# Altium footprint library gravpower.PcbLib: 27 footprints (part 2 of 2)
Each footprint in its own frame and in the unit in brackets; x right, y up, seen from the top. Pads: shape width x height; smd on the part's side, far side on the other; paste and mask are expansions set on the pad; w line width, h text height; cw(c..) or ccw(c..) is an arc to the next point about the centre after c.
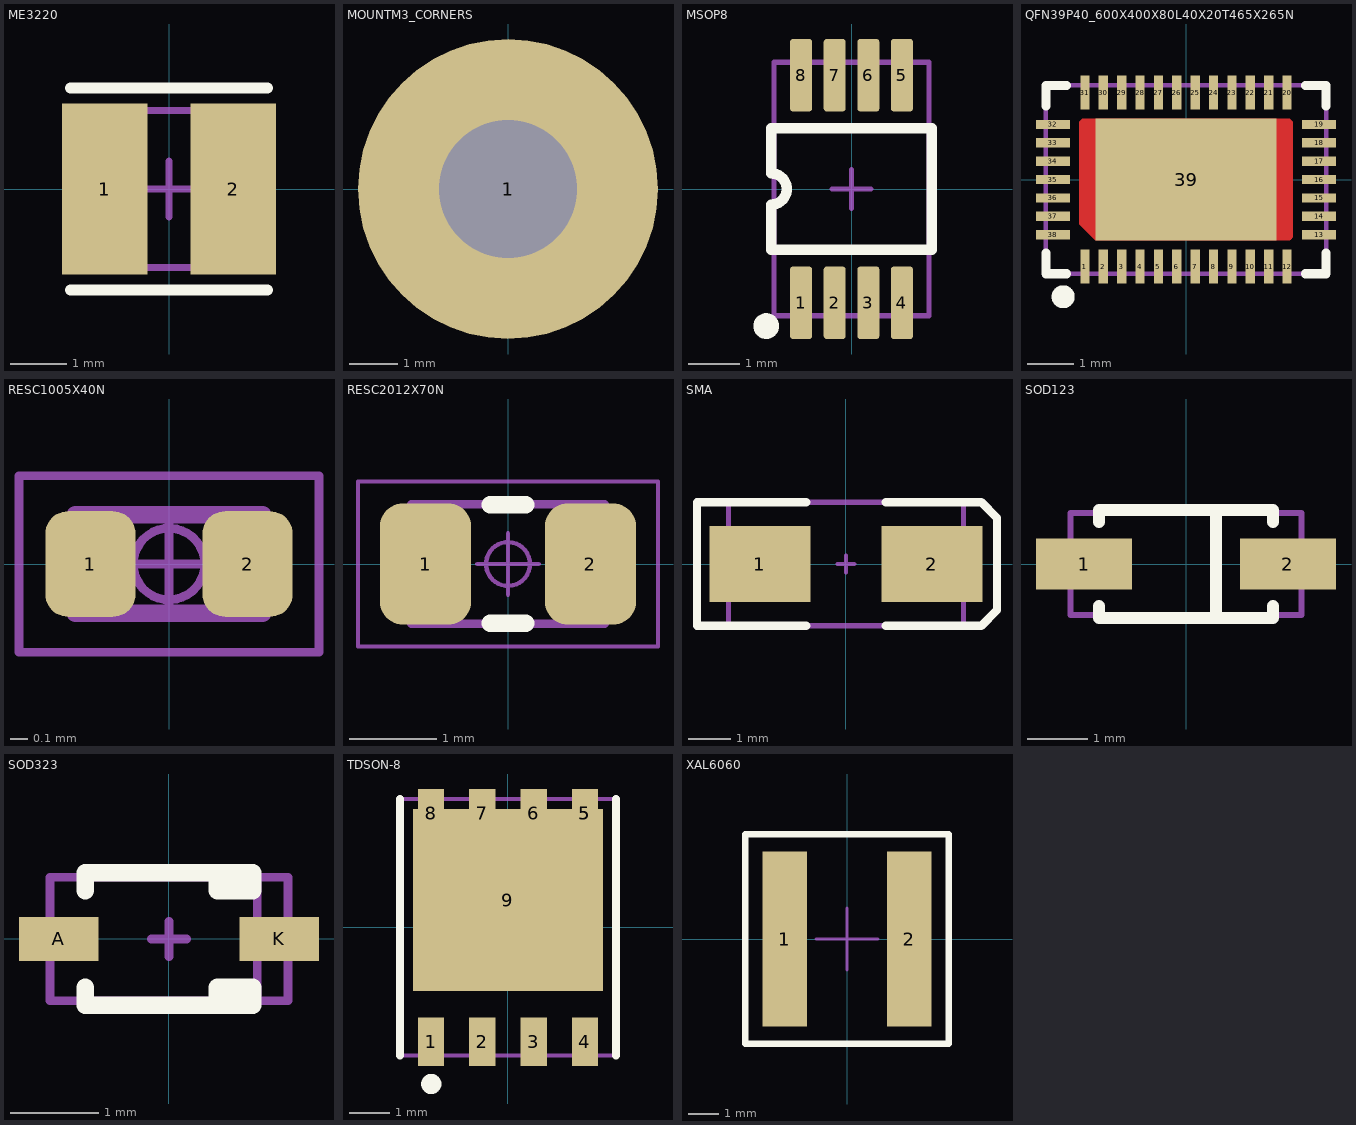
[diagram p1: the footprints below, top view; thin cyan lines are the x and y axes]

## ME3220 [mm] "SMT Power Inductor"
height 2
pads (2):
  rect 1.52x3.05 smd mask+0.05: 1(-1.145,0) 2(1.145,0)
Top Overlay:
  lines w0.2: -1.75,-1.8 1.75,-1.8 ; -1.75,1.8 1.75,1.8
Mechanical 15:
  lines w0.127: -0.5,0 0.5,0 ; 0,-0.5 0,0.5 ; -1.75,-1.4 1.775,-1.4 1.775,1.4 -1.75,1.4 -1.75,-1.4
3D body: height 2.4, standoff 0, extent -1.75,-1.399 1.75,1.399

## MOUNTM3_CORNERS [mm] "M3 Mounting Hole"
pads (1):
  round 6.2 hole 2.845 mask+0.4: 1(0,0)

## MSOP8 [mm] "MSOP8"
height 1.1
pads (8):
  rrect25% 0.425x1.4 smd mask+0.051: 1(-0.975,-2.2) 2(-0.325,-2.2) 3(0.325,-2.2) 4(0.975,-2.2) 5(0.975,2.2) 6(0.325,2.2) 7(-0.325,2.2) 8(-0.975,2.2)
Top Overlay:
  circle w0.25: c-1.65,-2.65 r0.125
  lines w0.2: -1.55,-1.175 -1.55,-0.3 ccw(c-1.55,0) -1.55,0.3 -1.55,1.175 1.55,1.175 1.55,-1.175 -1.55,-1.175
Mechanical 15:
  lines w0.1: -0.375,0 0.375,0 ; 0,-0.375 0,0.375 ; -1.5,-2.45 -1.5,2.45 1.5,2.45 1.5,-2.45 -1.5,-2.45
3D body "msop-8.step": height 1.15, standoff 0, extent -1.5,-2.45 1.5,2.45

## QFN39P40_600X400X80L40X20T465X265N [mm] "Quad Flat No-Lead (QFN with Tab), 0.40 mm pitch; rect., 12 pin X 7 pin, 6.00 mm L X 4.00 mm W X 0.80 mm H body"
height 0.8
pads (39):
  rect 0.2x0.74 smd mask+0.05: 1(-2.2,-1.895) 2(-1.8,-1.895) 3(-1.4,-1.895) 4(-1,-1.895) 5(-0.6,-1.895) 6(-0.2,-1.895) 7(0.2,-1.895) 8(0.6,-1.895) 9(1,-1.895) 10(1.4,-1.895) 11(1.8,-1.895) 12(2.2,-1.895) 20(2.2,1.895) 21(1.8,1.895) 22(1.4,1.895) 23(1,1.895) 24(0.6,1.895) 25(0.2,1.895) 26(-0.2,1.895) 27(-0.6,1.895) 28(-1,1.895) 29(-1.4,1.895) 30(-1.8,1.895) 31(-2.2,1.895)
  rect 0.74x0.2 smd mask+0.05: 13(2.895,-1.2) 14(2.895,-0.8) 15(2.895,-0.4) 16(2.895,0) 17(2.895,0.4) 18(2.895,0.8) 19(2.895,1.2) 32(-2.895,1.2) 33(-2.895,0.8) 34(-2.895,0.4) 35(-2.895,0) 36(-2.895,-0.4) 37(-2.895,-0.8) 38(-2.895,-1.2)
  rect 3.95x2.65 smd paste-3.95 mask+0: 39(0,0)
Top Layer:
  region: 2.325,0 2.325,-1.225 2.324,-1.241 2.32,-1.256 2.314,-1.27 2.306,-1.284 2.296,-1.296 2.284,-1.306 2.27,-1.314 2.256,-1.32 2.241,-1.324 -1.975,-1.325 -2.325,-0.975 -2.325,1.225 -2.324,1.241 -2.32,1.256 -2.314,1.27 -2.306,1.284 -2.296,1.296 -2.284,1.306 -2.27,1.314 -2.256,1.32 -2.241,1.324 2.225,1.325 2.241,1.324 2.256,1.32 2.27,1.314 2.284,1.306 2.296,1.296 2.306,1.284 2.314,1.27 2.32,1.256 2.324,1.241 2.325,1.225
Top Overlay:
  circle w0.25: c-2.675,-2.55 r0.125
  lines w0.2: -3.05,-1.6 -3.05,-2.05 -2.6,-2.05 ; -3.05,1.6 -3.05,2.05 -2.6,2.05 ; 2.6,-2.05 3.05,-2.05 3.05,-1.6 ; 2.6,2.05 3.05,2.05 3.05,1.6
Top Paste:
  region: -0.16,0.16 -2,0.16 -2,1 -0.16,1
  region: -0.16,-1 -2,-1 -2,-0.16 -0.16,-0.16
  region: 2,0.16 0.16,0.16 0.16,1 2,1
  region: 2,-1 0.16,-1 0.16,-0.16 2,-0.16
Top Solder:
  region: 2.325,0 2.325,-1.225 2.324,-1.241 2.32,-1.256 2.314,-1.27 2.306,-1.284 2.296,-1.296 2.284,-1.306 2.27,-1.314 2.256,-1.32 2.241,-1.324 -1.975,-1.325 -2.325,-0.975 -2.325,1.225 -2.324,1.241 -2.32,1.256 -2.314,1.27 -2.306,1.284 -2.296,1.296 -2.284,1.306 -2.27,1.314 -2.256,1.32 -2.241,1.324 2.225,1.325 2.241,1.324 2.256,1.32 2.27,1.314 2.284,1.306 2.296,1.296 2.306,1.284 2.314,1.27 2.32,1.256 2.324,1.241 2.325,1.225
Mechanical 15:
  lines w0.1: -0.35,0 0.35,0 ; 0,-0.35 0,0.35 ; -3.05,-2.05 3.05,-2.05 3.05,2.05 -3.05,2.05 -3.05,-2.05
3D body "QFN39P40_600X400X80L40X20T465X265.STEP": height 0.8, standoff 0, extent -3.05,-2.05 3.05,2.05

## RESC1005X40N [mm] "Resistor, Chip; 1.00 mm L X 0.50 mm W X 0.40 mm H body"
height 0.4
pads (2):
  rrect50% 0.51x0.6 smd: 1(-0.445,0) 2(0.445,0)
Mechanical 11:
  circle w0.05: c0,0 r0.202
  lines w0.05: -0.27,0 0.27,0 ; 0,-0.27 0,0.27 ; -0.85,-0.5 0.85,-0.5 0.85,0.5 -0.85,0.5 -0.85,-0.5
Mechanical 15:
  lines w0.1: -0.53,-0.28 0.53,-0.28 0.53,0.28 -0.53,0.28 -0.53,-0.28
3D body "RESC1005X40.STEP": height 0.4, standoff 0, extent -0.5,-0.25 0.5,0.25

## RESC2012X70N [mm] "Resistor, Chip; 2.00 mm L X 1.25 mm W X 0.70 mm H body"
height 0.7
pads (2):
  rrect50% 1.04x1.38 smd: 1(-0.94,0) 2(0.94,0)
Top Overlay:
  lines w0.2: -0.2,-0.675 0.2,-0.675 ; -0.2,0.675 0.2,0.675
Mechanical 11:
  circle w0.05: c0,0 r0.25
  lines w0.05: -0.35,0 0.35,0 ; 0,-0.35 0,0.35 ; -1.71,-0.94 -1.71,0.94 1.71,0.94 1.71,-0.94 -1.71,-0.94
Mechanical 15:
  lines w0.1: -1.1,-0.68 -1.1,0.68 1.1,0.68 1.1,-0.68 -1.1,-0.68
3D body "RESC2012X70.STEP": height 0.7, standoff 0, extent -1,-0.625 1,0.625

## SMA [mm] "DO-214-AC/SMA; 2 C-Bend Leads; Body 5 x 2.7 mm, inc. leads (LxW)"
height 2.44
pads (2):
  rect 2.4x1.8 smd: 1(-2.05,0) 2(2.05,0)
Top Overlay:
  lines w0.2: -0.95,-1.475 -3.55,-1.475 -3.55,1.475 -0.95,1.475 ; 0.95,-1.475 3.225,-1.475 3.6,-1.1 3.6,1.1 3.225,1.475 0.95,1.475
Mechanical 15:
  lines w0.1: -0.2,0 0.2,0 ; 0,-0.2 0,0.2
  lines w0.127: -2.8,-1.475 2.8,-1.475 2.8,1.475 -2.8,1.475 -2.8,-1.475
3D body "DO-214AC SMA.step": height 2.4, standoff 0, extent -2.6,-1.3 2.6,1.3

## SOD123 [mm] "SOD-123; 2 Leads; Body 2.7 x 1.6 mm, (LxW)"
height 1.35
pads (2):
  rect 1.6x0.85 smd: 1(-1.7,0) 2(1.7,0)
Top Overlay:
  lines w0.2: -1.45,-0.7 -1.45,-0.9 1.45,-0.9 1.45,-0.7 ; -1.45,0.7 -1.45,0.9 1.45,0.9 1.45,0.7 ; 0.5,-0.9 0.5,0.9
Mechanical 15:
  lines w0.1: -1.925,-0.85 1.925,-0.85 1.925,0.85 -1.925,0.85 -1.925,-0.85
3D body "User Library-SOD-123_DiodesInc.step": height 1.45, standoff 0, extent -1.925,-0.85 1.925,0.85

## SOD323 [mm] "SOD-323/SC-76; 2 Leads; Body 1.7 x 1.3 mm, (LxW)"
height 1.1
pads (2):
  rect 0.9x0.5 smd: A(-1.25,0) K(1.25,0)
Top Overlay:
  lines w0.2: -0.95,-0.55 -0.95,-0.75 0.95,-0.75 0.95,-0.55 0.55,-0.55 0.55,-0.75 ; -0.95,0.55 -0.95,0.75 0.95,0.75 0.95,0.55 0.55,0.55 0.55,0.75
Mechanical 15:
  lines w0.1: -0.2,0 0.2,0 ; 0,-0.2 0,0.2 ; 1,-0.7 1,0.7 ; -1.35,-0.7 -1.35,0.7 1.35,0.7 1.35,-0.7 -1.35,-0.7
3D body "User Library-SOD-323.step": height 1.1, standoff 0, extent -1.3,-0.675 1.3,0.675

## TDSON-8 [mm] "Power FET Package 5x6mm TDSON-8"
height 1
pads (10):
  rect 0.65x1.2 smd: 1(-1.905,-2.825) 2(-0.635,-2.825) 3(0.635,-2.825) 4(1.905,-2.825) 5(1.905,2.825) 5(1.905,2.825) 6(0.635,2.825) 7(-0.635,2.825) 8(-1.905,2.825)
  rect 4.7x4.5 smd: 9(0,0.675)
Top Overlay:
  circle w0.25: c-1.9,-3.875 r0.125
  lines w0.2: -2.675,-3.175 -2.675,3.175 ; 2.675,-3.175 2.675,3.175
Mechanical 1:
  lines w0.1: -2.675,-3.175 -2.675,3.175 2.675,3.175 2.675,-3.175 -2.675,-3.175
Mechanical 15:
  lines w0.1: -0.2,0 0.2,0 ; 0,-0.2 0,0.2 ; -2.675,-3.175 -2.675,3.175 2.675,3.175 2.675,-3.175 -2.675,-3.175
3D body: height 1, standoff 0, extent -2.675,-3.175 2.675,3.175

## XAL6060 [mm] "Shielded Power Inductor"
height 6.1
pads (2):
  rect 1.43x5.69 smd: 1(-2.02,0) 2(2.02,0)
Top Overlay:
  lines w0.2: -3.3,-3.4 -3.3,3.4 3.3,3.4 3.3,-3.4 -3.3,-3.4
Mechanical 15:
  lines w0.1: -1,0 1,0 ; 0,-1 0,1 ; -3.3,-3.4 3.3,-3.4 3.3,3.4 -3.3,3.4 -3.3,-3.4
3D body: height 6.1, standoff 0, extent -3.3,-3.4 3.3,3.4